# Altium footprint library AM3352.PcbLib: 2 footprints
Each footprint in its own frame and in the unit in brackets; x right, y up, seen from the top. Pads: shape width x height; smd on the part's side, far side on the other; paste and mask are expansions set on the pad; w line width, h text height; cw(c..) or ccw(c..) is an arc to the next point about the centre after c.
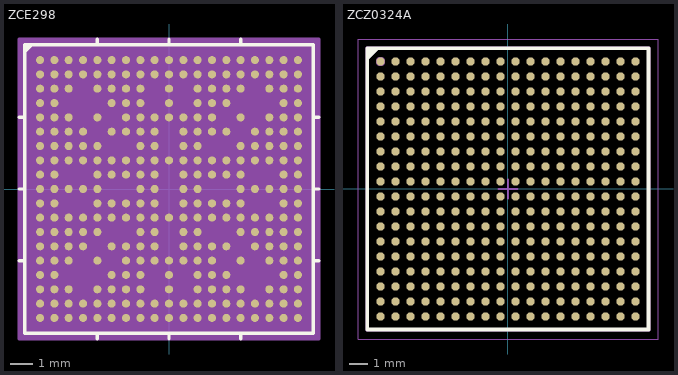
[diagram p0: the footprints below, top view; thin cyan lines are the x and y axes]

## ZCE298 [mm]
pads (298):
  round 0.368 smd: A1(-5.85,5.85) A2(-5.2,5.85) A3(-4.55,5.85) A4(-3.9,5.85) A5(-3.25,5.85) A6(-2.6,5.85) A7(-1.95,5.85) A8(-1.3,5.85) A9(-0.65,5.85) A10(0,5.85) A11(0.65,5.85) A12(1.3,5.85) A13(1.95,5.85) A14(2.6,5.85) A15(3.25,5.85) A16(3.9,5.85) A17(4.55,5.85) A18(5.2,5.85) A19(5.85,5.85) B1(-5.85,5.2) B2(-5.2,5.2) B3(-4.55,5.2) B4(-3.9,5.2) B5(-3.25,5.2) B6(-2.6,5.2) B7(-1.95,5.2) B8(-1.3,5.2) B9(-0.65,5.2) B10(0,5.2) B11(0.65,5.2) B12(1.3,5.2) B13(1.95,5.2) B14(2.6,5.2) B15(3.25,5.2) B16(3.9,5.2) B17(4.55,5.2) B18(5.2,5.2) B19(5.85,5.2) C1(-5.85,4.55) C2(-5.2,4.55) C3(-4.55,4.55) C5(-3.25,4.55) C6(-2.6,4.55) C7(-1.95,4.55) C8(-1.3,4.55) C10(0,4.55) C12(1.3,4.55) C13(1.95,4.55) C14(2.6,4.55) C15(3.25,4.55) C17(4.55,4.55) C18(5.2,4.55) C19(5.85,4.55) D1(-5.85,3.9) D2(-5.2,3.9) D6(-2.6,3.9) D7(-1.95,3.9) D8(-1.3,3.9) D10(0,3.9) D12(1.3,3.9) D13(1.95,3.9) D14(2.6,3.9) D18(5.2,3.9) D19(5.85,3.9) E1(-5.85,3.25) E2(-5.2,3.25) E3(-4.55,3.25) E5(-3.25,3.25) E7(-1.95,3.25) E8(-1.3,3.25) E9(-0.65,3.25) E10(0,3.25) E11(0.65,3.25) E12(1.3,3.25) E13(1.95,3.25) E15(3.25,3.25) E17(4.55,3.25) E18(5.2,3.25) E19(5.85,3.25) F1(-5.85,2.6) F2(-5.2,2.6) F3(-4.55,2.6) F4(-3.9,2.6) F6(-2.6,2.6) F7(-1.95,2.6) F8(-1.3,2.6) F9(-0.65,2.6) F11(0.65,2.6) F12(1.3,2.6) F13(1.95,2.6) F14(2.6,2.6) F16(3.9,2.6) F17(4.55,2.6) F18(5.2,2.6) F19(5.85,2.6) G1(-5.85,1.95) G2(-5.2,1.95) G3(-4.55,1.95) G4(-3.9,1.95) G5(-3.25,1.95) G8(-1.3,1.95) G9(-0.65,1.95) G11(0.65,1.95) G12(1.3,1.95) G15(3.25,1.95) G16(3.9,1.95) G17(4.55,1.95) G18(5.2,1.95) G19(5.85,1.95) H1(-5.85,1.3) H2(-5.2,1.3) H3(-4.55,1.3) H4(-3.9,1.3) H5(-3.25,1.3) H6(-2.6,1.3) H7(-1.95,1.3) H8(-1.3,1.3) H9(-0.65,1.3) H10(0,1.3) H11(0.65,1.3) H12(1.3,1.3) H13(1.95,1.3) H14(2.6,1.3) H15(3.25,1.3) H16(3.9,1.3) H17(4.55,1.3) H18(5.2,1.3) H19(5.85,1.3) J1(-5.85,0.65) J2(-5.2,0.65) J5(-3.25,0.65) J6(-2.6,0.65) J7(-1.95,0.65) J8(-1.3,0.65) J9(-0.65,0.65) J11(0.65,0.65) J12(1.3,0.65) J13(1.95,0.65) J14(2.6,0.65) J15(3.25,0.65) J18(5.2,0.65) J19(5.85,0.65) K1(-5.85,0) K2(-5.2,0) K3(-4.55,0) K4(-3.9,0) K5(-3.25,0) K8(-1.3,0) K9(-0.65,0) K11(0.65,0) K12(1.3,0) K15(3.25,0) K16(3.9,0) K17(4.55,0) K18(5.2,0) K19(5.85,0) L1(-5.85,-0.65) L2(-5.2,-0.65) L5(-3.25,-0.65) L6(-2.6,-0.65) L7(-1.95,-0.65) L8(-1.3,-0.65) L9(-0.65,-0.65) L11(0.65,-0.65) L12(1.3,-0.65) L13(1.95,-0.65) L14(2.6,-0.65) L15(3.25,-0.65) L18(5.2,-0.65) L19(5.85,-0.65) M1(-5.85,-1.3) M2(-5.2,-1.3) M3(-4.55,-1.3) M4(-3.9,-1.3) M5(-3.25,-1.3) M6(-2.6,-1.3) M7(-1.95,-1.3) M8(-1.3,-1.3) M9(-0.65,-1.3) M10(0,-1.3) M11(0.65,-1.3) M12(1.3,-1.3) M13(1.95,-1.3) M14(2.6,-1.3) M15(3.25,-1.3) M16(3.9,-1.3) M17(4.55,-1.3) M18(5.2,-1.3) M19(5.85,-1.3) N1(-5.85,-1.95) N2(-5.2,-1.95) N3(-4.55,-1.95) N4(-3.9,-1.95) N5(-3.25,-1.95) N8(-1.3,-1.95) N9(-0.65,-1.95) N11(0.65,-1.95) N12(1.3,-1.95) N15(3.25,-1.95) N16(3.9,-1.95) N17(4.55,-1.95) N18(5.2,-1.95) N19(5.85,-1.95) P1(-5.85,-2.6) P2(-5.2,-2.6) P3(-4.55,-2.6) P4(-3.9,-2.6) P6(-2.6,-2.6) P7(-1.95,-2.6) P8(-1.3,-2.6) P9(-0.65,-2.6) P11(0.65,-2.6) P12(1.3,-2.6) P13(1.95,-2.6) P14(2.6,-2.6) P16(3.9,-2.6) P17(4.55,-2.6) P18(5.2,-2.6) P19(5.85,-2.6) R1(-5.85,-3.25) R2(-5.2,-3.25) R3(-4.55,-3.25) R5(-3.25,-3.25) R7(-1.95,-3.25) R8(-1.3,-3.25) R9(-0.65,-3.25) R10(0,-3.25) R11(0.65,-3.25) R12(1.3,-3.25) R13(1.95,-3.25) R15(3.25,-3.25) R17(4.55,-3.25) R18(5.2,-3.25) R19(5.85,-3.25) T1(-5.85,-3.9) T2(-5.2,-3.9) T6(-2.6,-3.9) T7(-1.95,-3.9) T8(-1.3,-3.9) T10(0,-3.9) T12(1.3,-3.9) T13(1.95,-3.9) T14(2.6,-3.9) T18(5.2,-3.9) T19(5.85,-3.9) U1(-5.85,-4.55) U2(-5.2,-4.55) U3(-4.55,-4.55) U5(-3.25,-4.55) U6(-2.6,-4.55) U7(-1.95,-4.55) U8(-1.3,-4.55) U10(0,-4.55) U12(1.3,-4.55) U13(1.95,-4.55) U14(2.6,-4.55) U15(3.25,-4.55) U17(4.55,-4.55) U18(5.2,-4.55) U19(5.85,-4.55) V1(-5.85,-5.2) V2(-5.2,-5.2) V3(-4.55,-5.2) V4(-3.9,-5.2) V5(-3.25,-5.2) V6(-2.6,-5.2) V7(-1.95,-5.2) V8(-1.3,-5.2) V9(-0.65,-5.2) V10(0,-5.2) V11(0.65,-5.2) V12(1.3,-5.2) V13(1.95,-5.2) V14(2.6,-5.2) V15(3.25,-5.2) V16(3.9,-5.2) V17(4.55,-5.2) V18(5.2,-5.2) V19(5.85,-5.2) W1(-5.85,-5.85) W2(-5.2,-5.85) W3(-4.55,-5.85) W4(-3.9,-5.85) W5(-3.25,-5.85) W6(-2.6,-5.85) W7(-1.95,-5.85) W8(-1.3,-5.85) W9(-0.65,-5.85) W10(0,-5.85) W11(0.65,-5.85) W12(1.3,-5.85) W13(1.95,-5.85) W14(2.6,-5.85) W15(3.25,-5.85) W16(3.9,-5.85) W17(4.55,-5.85) W18(5.2,-5.85) W19(5.85,-5.85)
Top Overlay:
  region: -6.225,6.55 -6.55,6.55 -6.55,6.225
  lines w0.152: -6.804,-3.25 -6.55,-3.25 ; -6.804,0 -6.55,0 ; -6.804,3.25 -6.55,3.25 ; -6.55,6.225 -6.225,6.55 ; -3.25,-6.804 -3.25,-6.55 ; -3.25,6.55 -3.25,6.804 ; 0,-6.804 0,-6.55 ; 0,6.55 0,6.804 ; 3.25,-6.804 3.25,-6.55 ; 3.25,6.55 3.25,6.804 ; 6.55,-3.25 6.804,-3.25 ; 6.55,0 6.804,0 ; 6.55,3.25 6.804,3.25 ; -6.55,-6.55 6.55,-6.55 6.55,6.55 -6.55,6.55 -6.55,-6.55
Mechanical 13:
Mechanical 15:
  region: 6.804,-6.804 -6.804,-6.804 -6.804,6.804 6.804,6.804
  lines w0.152: -6.804,-6.804 -6.804,6.804 6.804,6.804 6.804,-6.804 -6.804,-6.804
3D body "ZCE0298A.stp": height 1.3, standoff 0, extent -6.5,-6.5 6.5,6.5

## ZCZ0324A [mm]
pads (324):
  round 0.45 smd paste+0 mask+0.051: A1(-6.8,6.8) A2(-6,6.8) A3(-5.2,6.8) A4(-4.4,6.8) A5(-3.6,6.8) A6(-2.8,6.8) A7(-2,6.8) A8(-1.2,6.8) A9(-0.4,6.8) A10(0.4,6.8) A11(1.2,6.8) A12(2,6.8) A13(2.8,6.8) A14(3.6,6.8) A15(4.4,6.8) A16(5.2,6.8) A17(6,6.8) A18(6.8,6.8) B1(-6.8,6) B2(-6,6) B3(-5.2,6) B4(-4.4,6) B5(-3.6,6) B6(-2.8,6) B7(-2,6) B8(-1.2,6) B9(-0.4,6) B10(0.4,6) B11(1.2,6) B12(2,6) B13(2.8,6) B14(3.6,6) B15(4.4,6) B16(5.2,6) B17(6,6) B18(6.8,6) C1(-6.8,5.2) C2(-6,5.2) C3(-5.2,5.2) C4(-4.4,5.2) C5(-3.6,5.2) C6(-2.8,5.2) C7(-2,5.2) C8(-1.2,5.2) C9(-0.4,5.2) C10(0.4,5.2) C11(1.2,5.2) C12(2,5.2) C13(2.8,5.2) C14(3.6,5.2) C15(4.4,5.2) C16(5.2,5.2) C17(6,5.2) C18(6.8,5.2) D1(-6.8,4.4) D2(-6,4.4) D3(-5.2,4.4) D4(-4.4,4.4) D5(-3.6,4.4) D6(-2.8,4.4) D7(-2,4.4) D8(-1.2,4.4) D9(-0.4,4.4) D10(0.4,4.4) D11(1.2,4.4) D12(2,4.4) D13(2.8,4.4) D14(3.6,4.4) D15(4.4,4.4) D16(5.2,4.4) D17(6,4.4) D18(6.8,4.4) E1(-6.8,3.6) E2(-6,3.6) E3(-5.2,3.6) E4(-4.4,3.6) E5(-3.6,3.6) E6(-2.8,3.6) E7(-2,3.6) E8(-1.2,3.6) E9(-0.4,3.6) E10(0.4,3.6) E11(1.2,3.6) E12(2,3.6) E13(2.8,3.6) E14(3.6,3.6) E15(4.4,3.6) E16(5.2,3.6) E17(6,3.6) E18(6.8,3.6) F1(-6.8,2.8) F2(-6,2.8) F3(-5.2,2.8) F4(-4.4,2.8) F5(-3.6,2.8) F6(-2.8,2.8) F7(-2,2.8) F8(-1.2,2.8) F9(-0.4,2.8) F10(0.4,2.8) F11(1.2,2.8) F12(2,2.8) F13(2.8,2.8) F14(3.6,2.8) F15(4.4,2.8) F16(5.2,2.8) F17(6,2.8) F18(6.8,2.8) G1(-6.8,2) G2(-6,2) G3(-5.2,2) G4(-4.4,2) G5(-3.6,2) G6(-2.8,2) G7(-2,2) G8(-1.2,2) G9(-0.4,2) G10(0.4,2) G11(1.2,2) G12(2,2) G13(2.8,2) G14(3.6,2) G15(4.4,2) G16(5.2,2) G17(6,2) G18(6.8,2) H1(-6.8,1.2) H2(-6,1.2) H3(-5.2,1.2) H4(-4.4,1.2) H5(-3.6,1.2) H6(-2.8,1.2) H7(-2,1.2) H8(-1.2,1.2) H9(-0.4,1.2) H10(0.4,1.2) H11(1.2,1.2) H12(2,1.2) H13(2.8,1.2) H14(3.6,1.2) H15(4.4,1.2) H16(5.2,1.2) H17(6,1.2) H18(6.8,1.2) J1(-6.8,0.4) J2(-6,0.4) J3(-5.2,0.4) J4(-4.4,0.4) J5(-3.6,0.4) J6(-2.8,0.4) J7(-2,0.4) J8(-1.2,0.4) J9(-0.4,0.4) J10(0.4,0.4) J11(1.2,0.4) J12(2,0.4) J13(2.8,0.4) J14(3.6,0.4) J15(4.4,0.4) J16(5.2,0.4) J17(6,0.4) J18(6.8,0.4) K1(-6.8,-0.4) K2(-6,-0.4) K3(-5.2,-0.4) K4(-4.4,-0.4) K5(-3.6,-0.4) K6(-2.8,-0.4) K7(-2,-0.4) K8(-1.2,-0.4) K9(-0.4,-0.4) K10(0.4,-0.4) K11(1.2,-0.4) K12(2,-0.4) K13(2.8,-0.4) K14(3.6,-0.4) K15(4.4,-0.4) K16(5.2,-0.4) K17(6,-0.4) K18(6.8,-0.4) L1(-6.8,-1.2) L2(-6,-1.2) L3(-5.2,-1.2) L4(-4.4,-1.2) L5(-3.6,-1.2) L6(-2.8,-1.2) L7(-2,-1.2) L8(-1.2,-1.2) L9(-0.4,-1.2) L10(0.4,-1.2) L11(1.2,-1.2) L12(2,-1.2) L13(2.8,-1.2) L14(3.6,-1.2) L15(4.4,-1.2) L16(5.2,-1.2) L17(6,-1.2) L18(6.8,-1.2) M1(-6.8,-2) M2(-6,-2) M3(-5.2,-2) M4(-4.4,-2) M5(-3.6,-2) M6(-2.8,-2) M7(-2,-2) M8(-1.2,-2) M9(-0.4,-2) M10(0.4,-2) M11(1.2,-2) M12(2,-2) M13(2.8,-2) M14(3.6,-2) M15(4.4,-2) M16(5.2,-2) M17(6,-2) M18(6.8,-2) N1(-6.8,-2.8) N2(-6,-2.8) N3(-5.2,-2.8) N4(-4.4,-2.8) N5(-3.6,-2.8) N6(-2.8,-2.8) N7(-2,-2.8) N8(-1.2,-2.8) N9(-0.4,-2.8) N10(0.4,-2.8) N11(1.2,-2.8) N12(2,-2.8) N13(2.8,-2.8) N14(3.6,-2.8) N15(4.4,-2.8) N16(5.2,-2.8) N17(6,-2.8) N18(6.8,-2.8) P1(-6.8,-3.6) P2(-6,-3.6) P3(-5.2,-3.6) P4(-4.4,-3.6) P5(-3.6,-3.6) P6(-2.8,-3.6) P7(-2,-3.6) P8(-1.2,-3.6) P9(-0.4,-3.6) P10(0.4,-3.6) P11(1.2,-3.6) P12(2,-3.6) P13(2.8,-3.6) P14(3.6,-3.6) P15(4.4,-3.6) P16(5.2,-3.6) P17(6,-3.6) P18(6.8,-3.6) R1(-6.8,-4.4) R2(-6,-4.4) R3(-5.2,-4.4) R4(-4.4,-4.4) R5(-3.6,-4.4) R6(-2.8,-4.4) R7(-2,-4.4) R8(-1.2,-4.4) R9(-0.4,-4.4) R10(0.4,-4.4) R11(1.2,-4.4) R12(2,-4.4) R13(2.8,-4.4) R14(3.6,-4.4) R15(4.4,-4.4) R16(5.2,-4.4) R17(6,-4.4) R18(6.8,-4.4) T1(-6.8,-5.2) T2(-6,-5.2) T3(-5.2,-5.2) T4(-4.4,-5.2) T5(-3.6,-5.2) T6(-2.8,-5.2) T7(-2,-5.2) T8(-1.2,-5.2) T9(-0.4,-5.2) T10(0.4,-5.2) T11(1.2,-5.2) T12(2,-5.2) T13(2.8,-5.2) T14(3.6,-5.2) T15(4.4,-5.2) T16(5.2,-5.2) T17(6,-5.2) T18(6.8,-5.2) U1(-6.8,-6) U2(-6,-6) U3(-5.2,-6) U4(-4.4,-6) U5(-3.6,-6) U6(-2.8,-6) U7(-2,-6) U8(-1.2,-6) U9(-0.4,-6) U10(0.4,-6) U11(1.2,-6) U12(2,-6) U13(2.8,-6) U14(3.6,-6) U15(4.4,-6) U16(5.2,-6) U17(6,-6) U18(6.8,-6) V1(-6.8,-6.8) V2(-6,-6.8) V3(-5.2,-6.8) V4(-4.4,-6.8) V5(-3.6,-6.8) V6(-2.8,-6.8) V7(-2,-6.8) V8(-1.2,-6.8) V9(-0.4,-6.8) V10(0.4,-6.8) V11(1.2,-6.8) V12(2,-6.8) V13(2.8,-6.8) V14(3.6,-6.8) V15(4.4,-6.8) V16(5.2,-6.8) V17(6,-6.8) V18(6.8,-6.8)
Top Overlay:
  region: -7.5,7.5 -6.984,7.5 -7.5,6.984
  lines w0.2: -7.5,6.984 -6.984,7.5 ; -7.5,-7.5 7.5,-7.5 7.5,7.5 -7.5,7.5 -7.5,-7.5
Mechanical 13:
  circle w0.1: c-6.8,6.8 r0.2
  lines w0.1: -7.55,-7.55 7.55,-7.55 7.55,7.55 -7.55,7.55 -7.55,-7.55
Mechanical 15:
  lines w0.05: -8,-8 8,-8 8,8 -8,8 -8,-8
  lines w0.1: -0.5,0 0.5,0 ; 0,-0.5 0,0.5
3D body: height 2.5, standoff 0, extent -9.906,3.81 -9.906,3.81
3D body "ZCZ0324A.stp": height 1.34, standoff 0, extent -7.5,-7.5 7.5,7.5